# Altium footprint library WURTH_4X4.PcbLib: 1 footprints
Each footprint in its own frame and in the unit in brackets; x right, y up, seen from the top. Pads: shape width x height; smd on the part's side, far side on the other; paste and mask are expansions set on the pad; w line width, h text height; cw(c..) or ccw(c..) is an arc to the next point about the centre after c.
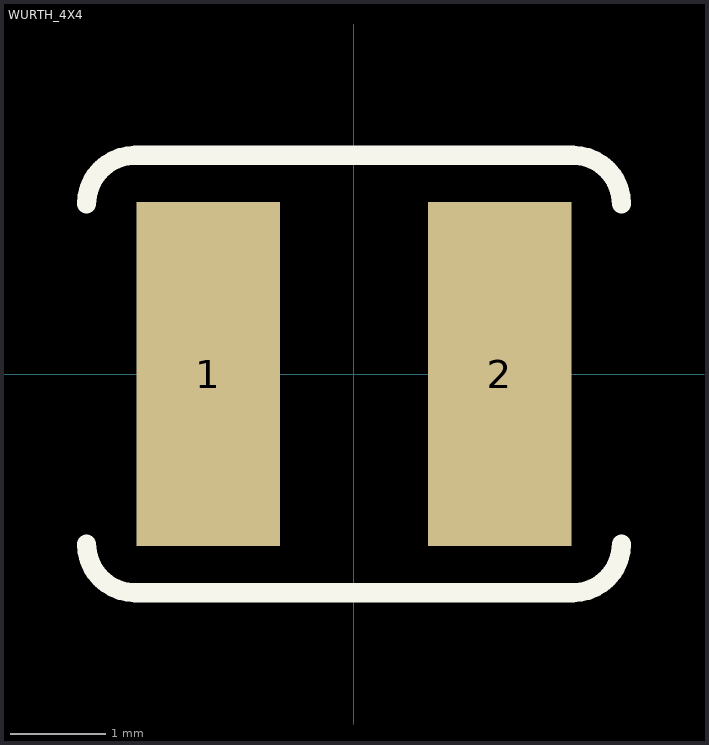
[diagram p0: the footprint, top view; thin cyan lines are the x and y axes]

## WURTH_4X4 [mm]
pads (2):
  rect 1.5x3.6 smd mask+0.1: 1(-1.525,0) 2(1.525,0)
Top Overlay:
  lines w0.2: -2.794,-1.778 ccw(c-2.286,-1.778) -2.286,-2.286 2.286,-2.286 ccw(c2.286,-1.778) 2.794,-1.778 ; -2.794,1.778 cw(c-2.286,1.778) -2.286,2.286 2.286,2.286 cw(c2.286,1.778) 2.794,1.778
3D body "74404042010_Download_STP_WE-LQS-4018_rev1.stp": height 1.8, standoff 0, extent -2,-2 2,2